# Altium footprint library micro-siemens.PCBLIB: 57 footprints (part 1 of 5)
Each footprint in its own frame and in the unit in brackets; x right, y up, seen from the top. Pads: shape width x height; smd on the part's side, far side on the other; paste and mask are expansions set on the pad; w line width, h text height; cw(c..) or ccw(c..) is an arc to the next point about the centre after c.
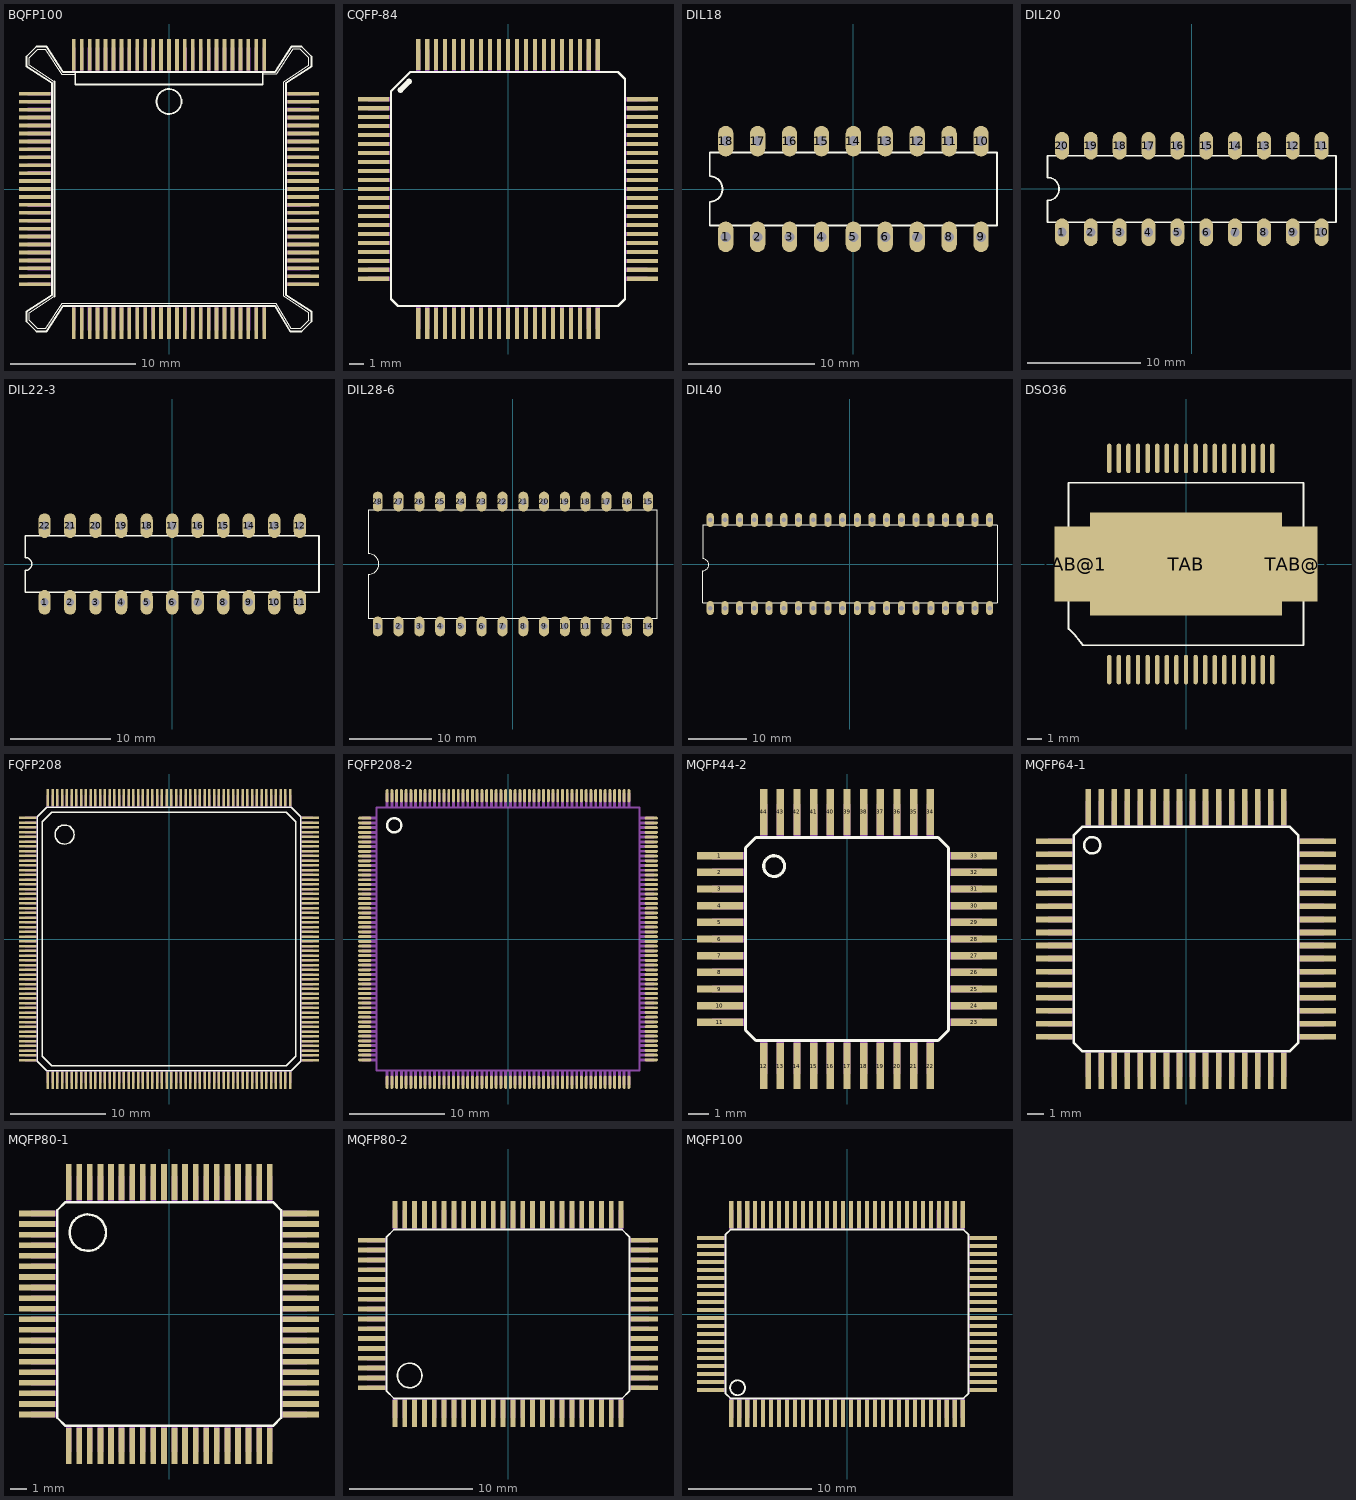
[diagram p0: the footprints below, top view; thin cyan lines are the x and y axes]

## BQFP100 [mm]
pads (100):
  rect 0.3x2.5 smd: 1(0,10.75) 2(-0.635,10.75) 3(-1.27,10.75) 4(-1.905,10.75) 5(-2.54,10.75) 6(-3.175,10.75) 7(-3.81,10.75) 8(-4.445,10.75) 9(-5.08,10.75) 10(-5.715,10.75) 11(-6.35,10.75) 12(-6.985,10.75) 13(-7.62,10.75) 39(-7.62,-10.75) 40(-6.985,-10.75) 41(-6.35,-10.75) 42(-5.715,-10.75) 43(-5.08,-10.75) 44(-4.445,-10.75) 45(-3.81,-10.75) 46(-3.175,-10.75) 47(-2.54,-10.75) 48(-1.905,-10.75) 49(-1.27,-10.75) 50(-0.635,-10.75) 51(0,-10.75) 52(0.635,-10.75) 53(1.27,-10.75) 54(1.905,-10.75) 55(2.54,-10.75) 56(3.175,-10.75) 57(3.81,-10.75) 58(4.445,-10.75) 59(5.08,-10.75) 60(5.715,-10.75) 61(6.35,-10.75) 62(6.985,-10.75) 63(7.62,-10.75) 89(7.62,10.75) 90(6.985,10.75) 91(6.35,10.75) 92(5.715,10.75) 93(5.08,10.75) 94(4.445,10.75) 95(3.81,10.75) 96(3.175,10.75) 97(2.54,10.75) 98(1.905,10.75) 99(1.27,10.75) 100(0.635,10.75)
  rect 2.5x0.3 smd: 14(-10.75,7.62) 15(-10.75,6.985) 16(-10.75,6.35) 17(-10.75,5.715) 18(-10.75,5.08) 19(-10.75,4.445) 20(-10.75,3.81) 21(-10.75,3.175) 22(-10.75,2.54) 23(-10.75,1.905) 24(-10.75,1.27) 25(-10.75,0.635) 26(-10.75,0) 27(-10.75,-0.635) 28(-10.75,-1.27) 29(-10.75,-1.905) 30(-10.75,-2.54) 31(-10.75,-3.175) 32(-10.75,-3.81) 33(-10.75,-4.445) 34(-10.75,-5.08) 35(-10.75,-5.715) 36(-10.75,-6.35) 37(-10.75,-6.985) 38(-10.75,-7.62) 64(10.75,-7.62) 65(10.75,-6.985) 66(10.75,-6.35) 67(10.75,-5.715) 68(10.75,-5.08) 69(10.75,-4.445) 70(10.75,-3.81) 71(10.75,-3.175) 72(10.75,-2.54) 73(10.75,-1.905) 74(10.75,-1.27) 75(10.75,-0.635) 76(10.75,0) 77(10.75,0.635) 78(10.75,1.27) 79(10.75,1.905) 80(10.75,2.54) 81(10.75,3.175) 82(10.75,3.81) 83(10.75,4.445) 84(10.75,5.08) 85(10.75,5.715) 86(10.75,6.35) 87(10.75,6.985) 88(10.75,7.62)
Top Overlay:
  circle w0.152: c0,7 r1
  lines w0.051: -9.173,-8.6 -11.2,-9.9 -11.2,-10.5 -10.5,-11.2 -9.9,-11.2 -8.6,-9.173 8.6,-9.173 9.8,-11.2 10.5,-11.2 11.2,-10.5 11.2,-9.9 9.173,-8.6 9.173,8.6 11.2,9.9 11.2,10.5 10.5,11.2 9.9,11.2 8.6,9.173 7.5,9.173 ; -9.173,8.6 -11.2,9.9 -11.2,10.5 -10.5,11.2 -9.9,11.2 -8.6,9.173 -7.5,9.173
  lines w0.152: -9.173,-8.6 -9.173,8.6 ; -7.5,9.373 -8.5,9.373 -9.8,11.4 -10.6,11.4 -11.4,10.6 -11.4,9.8 -9.373,8.5 -9.373,-8.5 -11.4,-9.8 -11.4,-10.6 -10.6,-11.4 -9.8,-11.4 -8.5,-9.373 8.5,-9.373 9.7,-11.4 10.6,-11.4 11.4,-10.6 11.4,-9.8 9.373,-8.5 9.373,8.5 11.4,9.8 11.4,10.6 10.6,11.4 9.8,11.4 8.5,9.373 7.5,9.373 ; -7.5,9.373 7.5,9.373 ; -7.5,9.373 -7.5,9.173 -7.5,8.373 7.5,8.373 7.5,9.173 7.5,9.373
Mechanical 16:
  rectangle: 7.47,9.373 7.77,11.303
  rectangle: 6.835,9.373 7.135,11.303
  rectangle: 6.2,9.373 6.5,11.303
  rectangle: 5.565,9.373 5.865,11.303
  rectangle: 4.93,9.373 5.23,11.303
  rectangle: 4.295,9.373 4.595,11.303
  rectangle: 3.66,9.373 3.96,11.303
  rectangle: 3.025,9.373 3.325,11.303
  rectangle: 2.39,9.373 2.69,11.303
  rectangle: 1.755,9.373 2.055,11.303
  rectangle: 1.12,9.373 1.42,11.303
  rectangle: 0.485,9.373 0.785,11.303
  rectangle: -0.15,9.373 0.15,11.303
  rectangle: -0.785,9.373 -0.485,11.303
  rectangle: -1.42,9.373 -1.12,11.303
  rectangle: -2.055,9.373 -1.755,11.303
  rectangle: -2.69,9.373 -2.39,11.303
  rectangle: -3.325,9.373 -3.025,11.303
  rectangle: -3.96,9.373 -3.66,11.303
  rectangle: -4.595,9.373 -4.295,11.303
  rectangle: -5.23,9.373 -4.93,11.303
  rectangle: -5.865,9.373 -5.565,11.303
  rectangle: -6.5,9.373 -6.2,11.303
  rectangle: -7.135,9.373 -6.835,11.303
  rectangle: -7.77,9.373 -7.47,11.303
  rectangle: -11.303,7.47 -9.373,7.77
  rectangle: -11.303,6.835 -9.373,7.135
  rectangle: -11.303,6.2 -9.373,6.5
  rectangle: -11.303,5.565 -9.373,5.865
  rectangle: -11.303,4.93 -9.373,5.23
  rectangle: -11.303,4.295 -9.373,4.595
  rectangle: -11.303,3.66 -9.373,3.96
  rectangle: -11.303,3.025 -9.373,3.325
  rectangle: -11.303,2.39 -9.373,2.69
  rectangle: -11.303,1.755 -9.373,2.055
  rectangle: -11.303,1.12 -9.373,1.42
  rectangle: -11.303,0.485 -9.373,0.785
  rectangle: -11.303,-0.15 -9.373,0.15
  rectangle: -11.303,-0.785 -9.373,-0.485
  rectangle: -11.303,-1.42 -9.373,-1.12
  rectangle: -11.303,-2.055 -9.373,-1.755
  rectangle: -11.303,-2.69 -9.373,-2.39
  rectangle: -11.303,-3.325 -9.373,-3.025
  rectangle: -11.303,-3.96 -9.373,-3.66
  rectangle: -11.303,-4.595 -9.373,-4.295
  rectangle: -11.303,-5.23 -9.373,-4.93
  rectangle: -11.303,-5.865 -9.373,-5.565
  rectangle: -11.303,-6.5 -9.373,-6.2
  rectangle: -11.303,-7.135 -9.373,-6.835
  rectangle: -11.303,-7.77 -9.373,-7.47
  rectangle: -7.77,-11.303 -7.47,-9.373
  rectangle: -7.135,-11.303 -6.835,-9.373
  rectangle: -6.5,-11.303 -6.2,-9.373
  rectangle: -5.865,-11.303 -5.565,-9.373
  rectangle: -5.23,-11.303 -4.93,-9.373
  rectangle: -4.595,-11.303 -4.295,-9.373
  rectangle: -3.96,-11.303 -3.66,-9.373
  rectangle: -3.325,-11.303 -3.025,-9.373
  rectangle: -2.69,-11.303 -2.39,-9.373
  rectangle: -2.055,-11.303 -1.755,-9.373
  rectangle: -1.42,-11.303 -1.12,-9.373
  rectangle: -0.785,-11.303 -0.485,-9.373
  rectangle: -0.15,-11.303 0.15,-9.373
  rectangle: 0.485,-11.303 0.785,-9.373
  rectangle: 1.12,-11.303 1.42,-9.373
  rectangle: 1.755,-11.303 2.055,-9.373
  rectangle: 2.39,-11.303 2.69,-9.373
  rectangle: 3.025,-11.303 3.325,-9.373
  rectangle: 3.66,-11.303 3.96,-9.373
  rectangle: 4.295,-11.303 4.595,-9.373
  rectangle: 4.93,-11.303 5.23,-9.373
  rectangle: 5.565,-11.303 5.865,-9.373
  rectangle: 6.2,-11.303 6.5,-9.373
  rectangle: 6.835,-11.303 7.135,-9.373
  rectangle: 7.47,-11.303 7.77,-9.373
  rectangle: 9.373,-7.77 11.303,-7.47
  rectangle: 9.373,-7.135 11.303,-6.835
  rectangle: 9.373,-6.5 11.303,-6.2
  rectangle: 9.373,-5.865 11.303,-5.565
  rectangle: 9.373,-5.23 11.303,-4.93
  rectangle: 9.373,-4.595 11.303,-4.295
  rectangle: 9.373,-3.96 11.303,-3.66
  rectangle: 9.373,-3.325 11.303,-3.025
  rectangle: 9.373,-2.69 11.303,-2.39
  rectangle: 9.373,-2.055 11.303,-1.755
  rectangle: 9.373,-1.42 11.303,-1.12
  rectangle: 9.373,-0.785 11.303,-0.485
  rectangle: 9.373,-0.15 11.303,0.15
  rectangle: 9.373,0.485 11.303,0.785
  rectangle: 9.373,1.12 11.303,1.42
  rectangle: 9.373,1.755 11.303,2.055
  rectangle: 9.373,2.39 11.303,2.69
  rectangle: 9.373,3.025 11.303,3.325
  rectangle: 9.373,3.66 11.303,3.96
  rectangle: 9.373,4.295 11.303,4.595
  rectangle: 9.373,4.93 11.303,5.23
  rectangle: 9.373,5.565 11.303,5.865
  rectangle: 9.373,6.2 11.303,6.5
  rectangle: 9.373,6.835 11.303,7.135
  rectangle: 9.373,7.47 11.303,7.77

## CQFP-84 [mm]
pads (84):
  rect 2.2x0.3 smd: 1(-9.5,6.35) 2(-9.5,5.715) 3(-9.5,5.08) 4(-9.5,4.445) 5(-9.5,3.81) 6(-9.5,3.175) 7(-9.5,2.54) 8(-9.5,1.905) 9(-9.5,1.27) 10(-9.5,0.635) 11(-9.5,0) 12(-9.5,-0.635) 13(-9.5,-1.27) 14(-9.5,-1.905) 15(-9.5,-2.54) 16(-9.5,-3.175) 17(-9.5,-3.81) 18(-9.5,-4.445) 19(-9.5,-5.08) 20(-9.5,-5.715) 21(-9.5,-6.35) 43(9.5,-6.35) 44(9.5,-5.715) 45(9.5,-5.08) 46(9.5,-4.445) 47(9.5,-3.81) 48(9.5,-3.175) 49(9.5,-2.54) 50(9.5,-1.905) 51(9.5,-1.27) 52(9.5,-0.635) 53(9.5,0) 54(9.5,0.635) 55(9.5,1.27) 56(9.5,1.905) 57(9.5,2.54) 58(9.5,3.175) 59(9.5,3.81) 60(9.5,4.445) 61(9.5,5.08) 62(9.5,5.715) 63(9.5,6.35)
  rect 0.3x2.2 smd: 22(-6.35,-9.5) 23(-5.715,-9.5) 24(-5.08,-9.5) 25(-4.445,-9.5) 26(-3.81,-9.5) 27(-3.175,-9.5) 28(-2.54,-9.5) 29(-1.905,-9.5) 30(-1.27,-9.5) 31(-0.635,-9.5) 32(0,-9.5) 33(0.635,-9.5) 34(1.27,-9.5) 35(1.905,-9.5) 36(2.54,-9.5) 37(3.175,-9.5) 38(3.81,-9.5) 39(4.445,-9.5) 40(5.08,-9.5) 41(5.715,-9.5) 42(6.35,-9.5) 64(6.35,9.5) 65(5.715,9.5) 66(5.08,9.5) 67(4.445,9.5) 68(3.81,9.5) 69(3.175,9.5) 70(2.54,9.5) 71(1.905,9.5) 72(1.27,9.5) 73(0.635,9.5) 74(0,9.5) 75(-0.635,9.5) 76(-1.27,9.5) 77(-1.905,9.5) 78(-2.54,9.5) 79(-3.175,9.5) 80(-3.81,9.5) 81(-4.445,9.5) 82(-5.08,9.5) 83(-5.715,9.5) 84(-6.35,9.5)
Top Overlay:
  lines w0.152: -8.273,-7.773 -7.773,-8.273 7.773,-8.273 8.273,-7.773 8.273,7.773 7.773,8.273 -6.9,8.273 -8.273,6.9 -8.273,-7.773
  lines w0.406: -7.6,7 -7,7.6
Mechanical 16:
  rectangle: 8.273,6.2 9.873,6.5
  rectangle: 8.273,5.565 9.873,5.865
  rectangle: 8.273,4.93 9.873,5.23
  rectangle: 8.273,4.295 9.873,4.595
  rectangle: 8.273,3.66 9.873,3.96
  rectangle: 8.273,3.025 9.873,3.325
  rectangle: 8.273,2.39 9.873,2.69
  rectangle: 8.273,1.755 9.873,2.055
  rectangle: 8.273,1.12 9.873,1.42
  rectangle: 8.273,0.485 9.873,0.785
  rectangle: 8.273,-0.15 9.873,0.15
  rectangle: 8.273,-0.785 9.873,-0.485
  rectangle: 8.273,-1.42 9.873,-1.12
  rectangle: 8.273,-2.055 9.873,-1.755
  rectangle: 8.273,-2.69 9.873,-2.39
  rectangle: 8.273,-3.325 9.873,-3.025
  rectangle: 8.273,-3.96 9.873,-3.66
  rectangle: 8.273,-4.595 9.873,-4.295
  rectangle: 8.273,-5.23 9.873,-4.93
  rectangle: 8.273,-5.865 9.873,-5.565
  rectangle: 8.273,-6.5 9.873,-6.2
  rectangle: -6.5,8.273 -6.2,9.873
  rectangle: -5.865,8.273 -5.565,9.873
  rectangle: -5.23,8.273 -4.93,9.873
  rectangle: -4.595,8.273 -4.295,9.873
  rectangle: -3.96,8.273 -3.66,9.873
  rectangle: -3.325,8.273 -3.025,9.873
  rectangle: -2.69,8.273 -2.39,9.873
  rectangle: -2.055,8.273 -1.755,9.873
  rectangle: -1.42,8.273 -1.12,9.873
  rectangle: -0.785,8.273 -0.485,9.873
  rectangle: -0.15,8.273 0.15,9.873
  rectangle: 0.485,8.273 0.785,9.873
  rectangle: 1.12,8.273 1.42,9.873
  rectangle: 1.755,8.273 2.055,9.873
  rectangle: 2.39,8.273 2.69,9.873
  rectangle: 3.025,8.273 3.325,9.873
  rectangle: 3.66,8.273 3.96,9.873
  rectangle: 4.295,8.273 4.595,9.873
  rectangle: 4.93,8.273 5.23,9.873
  rectangle: 5.565,8.273 5.865,9.873
  rectangle: 6.2,8.273 6.5,9.873
  rectangle: -9.888,6.2 -8.288,6.5
  rectangle: -9.888,5.565 -8.288,5.865
  rectangle: -9.888,4.93 -8.288,5.23
  rectangle: -9.888,4.295 -8.288,4.595
  rectangle: -9.888,3.66 -8.288,3.96
  rectangle: -9.888,3.025 -8.288,3.325
  rectangle: -9.888,2.39 -8.288,2.69
  rectangle: -9.888,1.755 -8.288,2.055
  rectangle: -9.888,1.12 -8.288,1.42
  rectangle: -9.888,0.485 -8.288,0.785
  rectangle: -9.888,-0.15 -8.288,0.15
  rectangle: -9.888,-0.785 -8.288,-0.485
  rectangle: -9.888,-1.42 -8.288,-1.12
  rectangle: -9.888,-2.055 -8.288,-1.755
  rectangle: -9.888,-2.69 -8.288,-2.39
  rectangle: -9.888,-3.325 -8.288,-3.025
  rectangle: -9.888,-3.96 -8.288,-3.66
  rectangle: -9.888,-4.595 -8.288,-4.295
  rectangle: -9.888,-5.23 -8.288,-4.93
  rectangle: -9.888,-5.865 -8.288,-5.565
  rectangle: -9.888,-6.5 -8.288,-6.2
  rectangle: -6.5,-9.888 -6.2,-8.288
  rectangle: -5.865,-9.888 -5.565,-8.288
  rectangle: -5.23,-9.888 -4.93,-8.288
  rectangle: -4.595,-9.888 -4.295,-8.288
  rectangle: -3.96,-9.888 -3.66,-8.288
  rectangle: -3.325,-9.888 -3.025,-8.288
  rectangle: -2.69,-9.888 -2.39,-8.288
  rectangle: -2.055,-9.888 -1.755,-8.288
  rectangle: -1.42,-9.888 -1.12,-8.288
  rectangle: -0.785,-9.888 -0.485,-8.288
  rectangle: -0.15,-9.888 0.15,-8.288
  rectangle: 0.485,-9.888 0.785,-8.288
  rectangle: 1.12,-9.888 1.42,-8.288
  rectangle: 1.755,-9.888 2.055,-8.288
  rectangle: 2.39,-9.888 2.69,-8.288
  rectangle: 3.025,-9.888 3.325,-8.288
  rectangle: 3.66,-9.888 3.96,-8.288
  rectangle: 4.295,-9.888 4.595,-8.288
  rectangle: 4.93,-9.888 5.23,-8.288
  rectangle: 5.565,-9.888 5.865,-8.288
  rectangle: 6.2,-9.888 6.5,-8.288

## DIL18 [mil]
pads (18):
  oval 48x96 hole 32: 1(-400,-150) 2(-300,-150) 3(-200,-150) 4(-100,-150) 5(0,-150) 6(100,-150) 7(200,-150) 8(300,-150) 9(400,-150) 10(400,150) 11(300,150) 12(200,150) 13(100,150) 14(0,150) 15(-100,150) 16(-200,150) 17(-300,150) 18(-400,150)
Top Overlay:
  lines w6: -450,-115 450,-115 450,115 -450,115 -450,40 cw(c-450,0) -450,-40 -450,-115

## DIL20 [mil]
pads (20):
  oval 48x96 hole 32: 1(-450,-150) 2(-350,-150) 3(-250,-150) 4(-150,-150) 5(-50,-150) 6(50,-150) 7(150,-150) 8(250,-150) 9(350,-150) 10(450,-150) 11(450,150) 12(350,150) 13(250,150) 14(150,150) 15(50,150) 16(-50,150) 17(-150,150) 18(-250,150) 19(-350,150) 20(-450,150)
Top Overlay:
  lines w6: -500,-115 500,-115 500,115 -500,115 -500,40 cw(c-500,0) -500,-40 -500,-115

## DIL22-3 [mil]
pads (22):
  oval 48x96 hole 32: 1(-500,-150) 2(-400,-150) 3(-300,-150) 4(-200,-150) 5(-100,-150) 6(0,-150) 7(100,-150) 8(200,-150) 9(300,-150) 10(400,-150) 11(500,-150) 12(500,150) 13(400,150) 14(300,150) 15(200,150) 16(100,150) 17(0,150) 18(-100,150) 19(-200,150) 20(-300,150) 21(-400,150) 22(-500,150)
Top Overlay:
  lines w6: -575,-110 -575,-25 ccw(c-575,0) -575,25 -575,110 575,110 575,-110 -575,-110

## DIL28-6 [mil]
pads (28):
  oval 48x96 hole 32: 1(-650,-300) 2(-550,-300) 3(-450,-300) 4(-350,-300) 5(-250,-300) 6(-150,-300) 7(-50,-300) 8(50,-300) 9(150,-300) 10(250,-300) 11(350,-300) 12(450,-300) 13(550,-300) 14(650,-300) 15(650,300) 16(550,300) 17(450,300) 18(350,300) 19(250,300) 20(150,300) 21(50,300) 22(-50,300) 23(-150,300) 24(-250,300) 25(-350,300) 26(-450,300) 27(-550,300) 28(-650,300)
Top Overlay:
  lines w6: -695,-260 -695,-50 ccw(c-695,0) -695,50 -695,260 695,260 695,-260 -695,-260

## DIL40 [mil]
pads (40):
  oval 48x96 hole 32: 1(-950,-300) 2(-850,-300) 3(-750,-300) 4(-650,-300) 5(-550,-300) 6(-450,-300) 7(-350,-300) 8(-250,-300) 9(-150,-300) 10(-50,-300) 11(50,-300) 12(150,-300) 13(250,-300) 14(350,-300) 15(450,-300) 16(550,-300) 17(650,-300) 18(750,-300) 19(850,-300) 20(950,-300) 21(950,300) 22(850,300) 23(750,300) 24(650,300) 25(550,300) 26(450,300) 27(350,300) 28(250,300) 29(150,300) 30(50,300) 31(-50,300) 32(-150,300) 33(-250,300) 34(-350,300) 35(-450,300) 36(-550,300) 37(-650,300) 38(-750,300) 39(-850,300) 40(-950,300)
Top Overlay:
  lines w6: -1000,-265 1000,-265 1000,265 -1000,265 -1000,35 cw(c-1000,-5) -1000,-45 -1000,-265

## DSO36 [mm]
pads (39):
  rrect100% 0.3x2 smd: 1(-5.2,-7.15) 2(-4.55,-7.15) 3(-3.9,-7.15) 4(-3.25,-7.15) 5(-2.6,-7.15) 6(-1.95,-7.15) 7(-1.3,-7.15) 8(-0.65,-7.15) 9(0,-7.15) 10(0.65,-7.15) 11(1.3,-7.15) 12(1.95,-7.15) 13(2.6,-7.15) 14(3.25,-7.15) 15(3.9,-7.15) 16(4.55,-7.15) 17(5.2,-7.15) 18(5.85,-7.15) 19(5.85,7.15) 20(5.2,7.15) 21(4.55,7.15) 22(3.9,7.15) 23(3.25,7.15) 24(2.6,7.15) 25(1.95,7.15) 26(1.3,7.15) 27(0.65,7.15) 28(0,7.15) 29(-0.65,7.15) 30(-1.3,7.15) 31(-1.95,7.15) 32(-2.6,7.15) 33(-3.25,7.15) 34(-3.9,7.15) 35(-4.55,7.15) 36(-5.2,7.15)
  rect 13x7 smd: TAB(0,0)
  rect 2.543x5.08 smd: TAB@1(-7.62,0) TAB@2(7.62,0)
Top Overlay:
  lines w0.127: -7.95,-4.4 -7.95,-1.15 -6.475,-1.15 -6.475,1.475 -7.95,1.475 -7.95,5.5 7.95,5.5 7.95,1.475 6.475,1.475 6.475,-1.15 7.95,-1.15 7.95,-5.5 -6.975,-5.5 -7.475,-4.875 -7.95,-4.4

## FQFP208 [mm]
pads (208):
  rect 1.8x0.27 smd: 1(-14.9,12.75) 2(-14.9,12.25) 3(-14.9,11.75) 4(-14.9,11.25) 5(-14.9,10.75) 6(-14.9,10.25) 7(-14.9,9.75) 8(-14.9,9.25) 9(-14.9,8.75) 10(-14.9,8.25) 11(-14.9,7.75) 12(-14.9,7.25) 13(-14.9,6.75) 14(-14.9,6.25) 15(-14.9,5.75) 16(-14.9,5.25) 17(-14.9,4.75) 18(-14.9,4.25) 19(-14.9,3.75) 20(-14.9,3.25) 21(-14.9,2.75) 22(-14.9,2.25) 23(-14.9,1.75) 24(-14.9,1.25) 25(-14.9,0.75) 26(-14.9,0.25) 27(-14.9,-0.25) 28(-14.9,-0.75) 29(-14.9,-1.25) 30(-14.9,-1.75) 31(-14.9,-2.25) 32(-14.9,-2.75) 33(-14.9,-3.25) 34(-14.9,-3.75) 35(-14.9,-4.25) 36(-14.9,-4.75) 37(-14.9,-5.25) 38(-14.9,-5.75) 39(-14.9,-6.25) 40(-14.9,-6.75) 41(-14.9,-7.25) 42(-14.9,-7.75) 43(-14.9,-8.25) 44(-14.9,-8.75) 45(-14.9,-9.25) 46(-14.9,-9.75) 47(-14.9,-10.25) 48(-14.9,-10.75) 49(-14.9,-11.25) 50(-14.9,-11.75) 51(-14.9,-12.25) 52(-14.9,-12.75) 105(14.9,-12.75) 106(14.9,-12.25) 107(14.9,-11.75) 108(14.9,-11.25) 109(14.9,-10.75) 110(14.9,-10.25) 111(14.9,-9.75) 112(14.9,-9.25) 113(14.9,-8.75) 114(14.9,-8.25) 115(14.9,-7.75) 116(14.9,-7.25) 117(14.9,-6.75) 118(14.9,-6.25) 119(14.9,-5.75) 120(14.9,-5.25) 121(14.9,-4.75) 122(14.9,-4.25) 123(14.9,-3.75) 124(14.9,-3.25) 125(14.9,-2.75) 126(14.9,-2.25) 127(14.9,-1.75) 128(14.9,-1.25) 129(14.9,-0.75) 130(14.9,-0.25) 131(14.9,0.25) 132(14.9,0.75) 133(14.9,1.25) 134(14.9,1.75) 135(14.9,2.25) 136(14.9,2.75) 137(14.9,3.25) 138(14.9,3.75) 139(14.9,4.25) 140(14.9,4.75) 141(14.9,5.25) 142(14.9,5.75) 143(14.9,6.25) 144(14.9,6.75) 145(14.9,7.25) 146(14.9,7.75) 147(14.9,8.25) 148(14.9,8.75) 149(14.9,9.25) 150(14.9,9.75) 151(14.9,10.25) 152(14.9,10.75) 153(14.9,11.25) 154(14.9,11.75) 155(14.9,12.25) 156(14.9,12.75)
  rect 0.27x1.8 smd: 53(-12.75,-14.9) 54(-12.25,-14.9) 55(-11.75,-14.9) 56(-11.25,-14.9) 57(-10.75,-14.9) 58(-10.25,-14.9) 59(-9.75,-14.9) 60(-9.25,-14.9) 61(-8.75,-14.9) 62(-8.25,-14.9) 63(-7.75,-14.9) 64(-7.25,-14.9) 65(-6.75,-14.9) 66(-6.25,-14.9) 67(-5.75,-14.9) 68(-5.25,-14.9) 69(-4.75,-14.9) 70(-4.25,-14.9) 71(-3.75,-14.9) 72(-3.25,-14.9) 73(-2.75,-14.9) 74(-2.25,-14.9) 75(-1.75,-14.9) 76(-1.25,-14.9) 77(-0.75,-14.9) 78(-0.25,-14.9) 79(0.25,-14.9) 80(0.75,-14.9) 81(1.25,-14.9) 82(1.75,-14.9) 83(2.25,-14.9) 84(2.75,-14.9) 85(3.25,-14.9) 86(3.75,-14.9) 87(4.25,-14.9) 88(4.75,-14.9) 89(5.25,-14.9) 90(5.75,-14.9) 91(6.25,-14.9) 92(6.75,-14.9) 93(7.25,-14.9) 94(7.75,-14.9) 95(8.25,-14.9) 96(8.75,-14.9) 97(9.25,-14.9) 98(9.75,-14.9) 99(10.25,-14.9) 100(10.75,-14.9) 101(11.25,-14.9) 102(11.75,-14.9) 103(12.25,-14.9) 104(12.75,-14.9) 157(12.75,14.9) 158(12.25,14.9) 159(11.75,14.9) 160(11.25,14.9) 161(10.75,14.9) 162(10.25,14.9) 163(9.75,14.9) 164(9.25,14.9) 165(8.75,14.9) 166(8.25,14.9) 167(7.75,14.9) 168(7.25,14.9) 169(6.75,14.9) 170(6.25,14.9) 171(5.75,14.9) 172(5.25,14.9) 173(4.75,14.9) 174(4.25,14.9) 175(3.75,14.9) 176(3.25,14.9) 177(2.75,14.9) 178(2.25,14.9) 179(1.75,14.9) 180(1.25,14.9) 181(0.75,14.9) 182(0.25,14.9) 183(-0.25,14.9) 184(-0.75,14.9) 185(-1.25,14.9) 186(-1.75,14.9) 187(-2.25,14.9) 188(-2.75,14.9) 189(-3.25,14.9) 190(-3.75,14.9) 191(-4.25,14.9) 192(-4.75,14.9) 193(-5.25,14.9) 194(-5.75,14.9) 195(-6.25,14.9) 196(-6.75,14.9) 197(-7.25,14.9) 198(-7.75,14.9) 199(-8.25,14.9) 200(-8.75,14.9) 201(-9.25,14.9) 202(-9.75,14.9) 203(-10.25,14.9) 204(-10.75,14.9) 205(-11.25,14.9) 206(-11.75,14.9) 207(-12.25,14.9) 208(-12.75,14.9)
Top Overlay:
  circle w0.152: c-11,11 r1
  lines w0.152: -13.873,-12.873 -12.873,-13.873 12.873,-13.873 13.873,-12.873 13.873,12.873 12.873,13.873 -12.873,13.873 -13.873,12.873 -13.873,-12.873 ; -13.373,-12.373 -12.373,-13.373 12.373,-13.373 13.373,-12.373 13.373,12.373 12.373,13.373 -12.373,13.373 -13.373,12.373 -13.373,-12.373
Mechanical 16:
  drawing of 208 lines, arcs and shapes, not listed

## FQFP208-2 [mm]
pads (208):
  rrect100% 1.4x0.31 smd: 1(-15.125,12.75) 2(-15.125,12.25) 3(-15.125,11.75) 4(-15.125,11.25) 5(-15.125,10.75) 6(-15.125,10.25) 7(-15.125,9.75) 8(-15.125,9.25) 9(-15.125,8.75) 10(-15.125,8.25) 11(-15.125,7.75) 12(-15.125,7.25) 13(-15.125,6.75) 14(-15.125,6.25) 15(-15.125,5.75) 16(-15.125,5.25) 17(-15.125,4.75) 18(-15.125,4.25) 19(-15.125,3.75) 20(-15.125,3.25) 21(-15.125,2.75) 22(-15.125,2.25) 23(-15.125,1.75) 24(-15.125,1.25) 25(-15.125,0.75) 26(-15.125,0.25) 27(-15.125,-0.25) 28(-15.125,-0.75) 29(-15.125,-1.25) 30(-15.125,-1.75) 31(-15.125,-2.25) 32(-15.125,-2.75) 33(-15.125,-3.25) 34(-15.125,-3.75) 35(-15.125,-4.25) 36(-15.125,-4.75) 37(-15.125,-5.25) 38(-15.125,-5.75) 39(-15.125,-6.25) 40(-15.125,-6.75) 41(-15.125,-7.25) 42(-15.125,-7.75) 43(-15.125,-8.25) 44(-15.125,-8.75) 45(-15.125,-9.25) 46(-15.125,-9.75) 47(-15.125,-10.25) 48(-15.125,-10.75) 49(-15.125,-11.25) 50(-15.125,-11.75) 51(-15.125,-12.25) 52(-15.125,-12.75) 105(15.125,-12.75) 106(15.125,-12.25) 107(15.125,-11.75) 108(15.125,-11.25) 109(15.125,-10.75) 110(15.125,-10.25) 111(15.125,-9.75) 112(15.125,-9.25) 113(15.125,-8.75) 114(15.125,-8.25) 115(15.125,-7.75) 116(15.125,-7.25) 117(15.125,-6.75) 118(15.125,-6.25) 119(15.125,-5.75) 120(15.125,-5.25) 121(15.125,-4.75) 122(15.125,-4.25) 123(15.125,-3.75) 124(15.125,-3.25) 125(15.125,-2.75) 126(15.125,-2.25) 127(15.125,-1.75) 128(15.125,-1.25) 129(15.125,-0.75) 130(15.125,-0.25) 131(15.125,0.25) 132(15.125,0.75) 133(15.125,1.25) 134(15.125,1.75) 135(15.125,2.25) 136(15.125,2.75) 137(15.125,3.25) 138(15.125,3.75) 139(15.125,4.25) 140(15.125,4.75) 141(15.125,5.25) 142(15.125,5.75) 143(15.125,6.25) 144(15.125,6.75) 145(15.125,7.25) 146(15.125,7.75) 147(15.125,8.25) 148(15.125,8.75) 149(15.125,9.25) 150(15.125,9.75) 151(15.125,10.25) 152(15.125,10.75) 153(15.125,11.25) 154(15.125,11.75) 155(15.125,12.25) 156(15.125,12.75)
  rrect100% 0.31x1.4 smd: 53(-12.75,-15.125) 54(-12.25,-15.125) 55(-11.75,-15.125) 56(-11.25,-15.125) 57(-10.75,-15.125) 58(-10.25,-15.125) 59(-9.75,-15.125) 60(-9.25,-15.125) 61(-8.75,-15.125) 62(-8.25,-15.125) 63(-7.75,-15.125) 64(-7.25,-15.125) 65(-6.75,-15.125) 66(-6.25,-15.125) 67(-5.75,-15.125) 68(-5.25,-15.125) 69(-4.75,-15.125) 70(-4.25,-15.125) 71(-3.75,-15.125) 72(-3.25,-15.125) 73(-2.75,-15.125) 74(-2.25,-15.125) 75(-1.75,-15.125) 76(-1.25,-15.125) 77(-0.75,-15.125) 78(-0.25,-15.125) 79(0.25,-15.125) 80(0.75,-15.125) 81(1.25,-15.125) 82(1.75,-15.125) 83(2.25,-15.125) 84(2.75,-15.125) 85(3.25,-15.125) 86(3.75,-15.125) 87(4.25,-15.125) 88(4.75,-15.125) 89(5.25,-15.125) 90(5.75,-15.125) 91(6.25,-15.125) 92(6.75,-15.125) 93(7.25,-15.125) 94(7.75,-15.125) 95(8.25,-15.125) 96(8.75,-15.125) 97(9.25,-15.125) 98(9.75,-15.125) 99(10.25,-15.125) 100(10.75,-15.125) 101(11.25,-15.125) 102(11.75,-15.125) 103(12.25,-15.125) 104(12.75,-15.125) 157(12.75,15.125) 158(12.25,15.125) 159(11.75,15.125) 160(11.25,15.125) 161(10.75,15.125) 162(10.25,15.125) 163(9.75,15.125) 164(9.25,15.125) 165(8.75,15.125) 166(8.25,15.125) 167(7.75,15.125) 168(7.25,15.125) 169(6.75,15.125) 170(6.25,15.125) 171(5.75,15.125) 172(5.25,15.125) 173(4.75,15.125) 174(4.25,15.125) 175(3.75,15.125) 176(3.25,15.125) 177(2.75,15.125) 178(2.25,15.125) 179(1.75,15.125) 180(1.25,15.125) 181(0.75,15.125) 182(0.25,15.125) 183(-0.25,15.125) 184(-0.75,15.125) 185(-1.25,15.125) 186(-1.75,15.125) 187(-2.25,15.125) 188(-2.75,15.125) 189(-3.25,15.125) 190(-3.75,15.125) 191(-4.25,15.125) 192(-4.75,15.125) 193(-5.25,15.125) 194(-5.75,15.125) 195(-6.25,15.125) 196(-6.75,15.125) 197(-7.25,15.125) 198(-7.75,15.125) 199(-8.25,15.125) 200(-8.75,15.125) 201(-9.25,15.125) 202(-9.75,15.125) 203(-10.25,15.125) 204(-10.75,15.125) 205(-11.25,15.125) 206(-11.75,15.125) 207(-12.25,15.125) 208(-12.75,15.125)
Top Overlay:
  circle w0.254: c-12,12 r0.75
Mechanical 16:
  drawing of 212 lines, arcs and shapes, not listed

## MQFP44-2 [mm]
pads (44):
  rect 2.2x0.35 smd: 1(-6.1,4) 2(-6.1,3.2) 3(-6.1,2.4) 4(-6.1,1.6) 5(-6.1,0.8) 6(-6.1,0) 7(-6.1,-0.8) 8(-6.1,-1.6) 9(-6.1,-2.4) 10(-6.1,-3.2) 11(-6.1,-4) 23(6.1,-4) 24(6.1,-3.2) 25(6.1,-2.4) 26(6.1,-1.6) 27(6.1,-0.8) 28(6.1,0) 29(6.1,0.8) 30(6.1,1.6) 31(6.1,2.4) 32(6.1,3.2) 33(6.1,4)
  rect 0.35x2.2 smd: 12(-4,-6.1) 13(-3.2,-6.1) 14(-2.4,-6.1) 15(-1.6,-6.1) 16(-0.8,-6.1) 17(0,-6.1) 18(0.8,-6.1) 19(1.6,-6.1) 20(2.4,-6.1) 21(3.2,-6.1) 22(4,-6.1) 34(4,6.1) 35(3.2,6.1) 36(2.4,6.1) 37(1.6,6.1) 38(0.8,6.1) 39(0,6.1) 40(-0.8,6.1) 41(-1.6,6.1) 42(-2.4,6.1) 43(-3.2,6.1) 44(-4,6.1)
Top Overlay:
  circle w0.152: c-3.5,3.5 r0.5
  lines w0.152: -4.873,-4.373 -4.873,4.373 -4.373,4.873 4.373,4.873 4.873,4.373 4.873,-4.373 4.373,-4.873 -4.373,-4.873 -4.873,-4.373
Mechanical 16:
  rectangle: 4.873,3.825 6.473,4.175
  rectangle: 4.873,3.025 6.473,3.375
  rectangle: 4.873,2.225 6.473,2.575
  rectangle: 4.873,1.425 6.473,1.775
  rectangle: 4.873,0.625 6.473,0.975
  rectangle: 4.873,-0.175 6.473,0.175
  rectangle: 4.873,-0.975 6.473,-0.625
  rectangle: 4.873,-1.775 6.473,-1.425
  rectangle: 4.873,-2.575 6.473,-2.225
  rectangle: 4.873,-3.375 6.473,-3.025
  rectangle: 4.873,-4.175 6.473,-3.825
  rectangle: 3.025,-6.473 3.375,-4.873
  rectangle: 3.825,-6.473 4.175,-4.873
  rectangle: 2.225,-6.473 2.575,-4.873
  rectangle: 1.425,-6.473 1.775,-4.873
  rectangle: 0.625,-6.473 0.975,-4.873
  rectangle: -0.175,-6.473 0.175,-4.873
  rectangle: -0.975,-6.473 -0.625,-4.873
  rectangle: -1.775,-6.473 -1.425,-4.873
  rectangle: -2.575,-6.473 -2.225,-4.873
  rectangle: -3.375,-6.473 -3.025,-4.873
  rectangle: -4.175,-6.473 -3.825,-4.873
  rectangle: -6.473,-4.175 -4.873,-3.825
  rectangle: -6.473,-3.375 -4.873,-3.025
  rectangle: -6.473,-2.575 -4.873,-2.225
  rectangle: -6.473,-1.775 -4.873,-1.425
  rectangle: -6.473,-0.975 -4.873,-0.625
  rectangle: -6.473,-0.175 -4.873,0.175
  rectangle: -6.473,0.625 -4.873,0.975
  rectangle: -6.473,1.425 -4.848,1.775
  rectangle: -6.473,2.225 -4.873,2.575
  rectangle: -6.473,3.025 -4.873,3.375
  rectangle: -6.473,3.825 -4.873,4.175
  rectangle: -4.175,4.873 -3.825,6.473
  rectangle: -3.375,4.873 -3.025,6.473
  rectangle: -2.575,4.873 -2.225,6.473
  rectangle: -0.975,4.873 -0.625,6.473
  rectangle: -1.775,4.873 -1.425,6.473
  rectangle: 0.625,4.873 0.975,6.473
  rectangle: -0.175,4.873 0.175,6.473
  rectangle: 2.225,4.873 2.575,6.473
  rectangle: 1.425,4.873 1.775,6.473
  rectangle: 3.825,4.873 4.175,6.473
  rectangle: 3.025,4.873 3.375,6.473

## MQFP64-1 [mm]
pads (64):
  rect 2.2x0.35 smd: 1(-8.1,6) 2(-8.1,5.2) 3(-8.1,4.4) 4(-8.1,3.6) 5(-8.1,2.8) 6(-8.1,2) 7(-8.1,1.2) 8(-8.1,0.4) 9(-8.1,-0.4) 10(-8.1,-1.2) 11(-8.1,-2) 12(-8.1,-2.8) 13(-8.1,-3.6) 14(-8.1,-4.4) 15(-8.1,-5.2) 16(-8.1,-6) 33(8.1,-6) 34(8.1,-5.2) 35(8.1,-4.4) 36(8.1,-3.6) 37(8.1,-2.8) 38(8.1,-2) 39(8.1,-1.2) 40(8.1,-0.4) 41(8.1,0.4) 42(8.1,1.2) 43(8.1,2) 44(8.1,2.8) 45(8.1,3.6) 46(8.1,4.4) 47(8.1,5.2) 48(8.1,6)
  rect 0.35x2.2 smd: 17(-6,-8.1) 18(-5.2,-8.1) 19(-4.4,-8.1) 20(-3.6,-8.1) 21(-2.8,-8.1) 22(-2,-8.1) 23(-1.2,-8.1) 24(-0.4,-8.1) 25(0.4,-8.1) 26(1.2,-8.1) 27(2,-8.1) 28(2.8,-8.1) 29(3.6,-8.1) 30(4.4,-8.1) 31(5.2,-8.1) 32(6,-8.1) 49(6,8.1) 50(5.2,8.1) 51(4.4,8.1) 52(3.6,8.1) 53(2.8,8.1) 54(2,8.1) 55(1.2,8.1) 56(0.4,8.1) 57(-0.4,8.1) 58(-1.2,8.1) 59(-2,8.1) 60(-2.8,8.1) 61(-3.6,8.1) 62(-4.4,8.1) 63(-5.2,8.1) 64(-6,8.1)
Top Overlay:
  circle w0.152: c-5.75,5.75 r0.5
  lines w0.152: -6.873,-6.373 -6.873,6.373 -6.373,6.873 6.373,6.873 6.873,6.373 6.873,-6.373 6.373,-6.873 -6.373,-6.873 -6.873,-6.373
Mechanical 16:
  rectangle: 6.873,5.825 8.473,6.175
  rectangle: 6.873,5.025 8.473,5.375
  rectangle: 6.873,4.225 8.473,4.575
  rectangle: 6.873,3.425 8.473,3.775
  rectangle: 6.873,2.625 8.473,2.975
  rectangle: 6.873,1.825 8.473,2.175
  rectangle: 6.873,1.025 8.473,1.375
  rectangle: 6.873,0.225 8.473,0.575
  rectangle: 6.873,-0.575 8.473,-0.225
  rectangle: 6.873,-1.375 8.473,-1.025
  rectangle: 6.873,-2.175 8.473,-1.825
  rectangle: 6.873,-2.975 8.473,-2.625
  rectangle: 6.873,-3.775 8.473,-3.425
  rectangle: 6.873,-4.575 8.473,-4.225
  rectangle: 6.873,-5.375 8.473,-5.025
  rectangle: 6.873,-6.175 8.473,-5.825
  rectangle: 5.825,-8.473 6.175,-6.873
  rectangle: 5.025,-8.473 5.375,-6.873
  rectangle: 4.225,-8.473 4.575,-6.873
  rectangle: 3.425,-8.473 3.775,-6.873
  rectangle: 2.625,-8.473 2.975,-6.873
  rectangle: 1.825,-8.473 2.175,-6.873
  rectangle: 1.025,-8.473 1.375,-6.873
  rectangle: 0.225,-8.473 0.575,-6.873
  rectangle: -0.575,-8.473 -0.225,-6.873
  rectangle: -1.375,-8.473 -1.025,-6.873
  rectangle: -2.175,-8.473 -1.825,-6.873
  rectangle: -2.975,-8.473 -2.625,-6.873
  rectangle: -3.775,-8.473 -3.425,-6.873
  rectangle: -4.575,-8.473 -4.225,-6.873
  rectangle: -5.375,-8.473 -5.025,-6.873
  rectangle: -6.175,-8.473 -5.825,-6.873
  rectangle: -8.473,-6.175 -6.873,-5.825
  rectangle: -8.473,-5.375 -6.873,-5.025
  rectangle: -8.473,-4.575 -6.873,-4.225
  rectangle: -8.473,-3.775 -6.873,-3.425
  rectangle: -8.473,-2.975 -6.873,-2.625
  rectangle: -8.473,-2.175 -6.873,-1.825
  rectangle: -8.473,-1.375 -6.873,-1.025
  rectangle: -8.473,-0.575 -6.873,-0.225
  rectangle: -8.473,0.225 -6.873,0.575
  rectangle: -8.473,1.025 -6.873,1.375
  rectangle: -8.473,1.825 -6.873,2.175
  rectangle: -8.473,2.625 -6.873,2.975
  rectangle: -8.473,3.425 -6.873,3.775
  rectangle: -8.473,4.225 -6.873,4.575
  rectangle: -8.473,5.025 -6.873,5.375
  rectangle: -8.473,5.825 -6.873,6.175
  rectangle: -5.375,6.873 -5.025,8.473
  rectangle: -6.175,6.873 -5.825,8.473
  rectangle: -3.775,6.873 -3.425,8.473
  rectangle: -4.575,6.873 -4.225,8.473
  rectangle: -2.975,6.873 -2.625,8.473
  rectangle: -2.175,6.848 -1.825,8.473
  rectangle: -1.375,6.873 -1.025,8.473
  rectangle: -0.575,6.873 -0.225,8.473
  rectangle: 0.225,6.873 0.575,8.473
  rectangle: 1.025,6.873 1.375,8.473
  rectangle: 1.825,6.873 2.175,8.473
  rectangle: 2.625,6.873 2.975,8.473
  rectangle: 3.425,6.873 3.775,8.473
  rectangle: 4.225,6.873 4.575,8.473
  rectangle: 5.825,6.873 6.175,8.473
  rectangle: 5.025,6.873 5.375,8.473

## MQFP80-1 [mm]
pads (80):
  rect 2.2x0.35 smd: 1(-8.125,6.175) 2(-8.125,5.525) 3(-8.125,4.875) 4(-8.125,4.225) 5(-8.125,3.575) 6(-8.125,2.925) 7(-8.125,2.275) 8(-8.125,1.625) 9(-8.125,0.975) 10(-8.125,0.325) 11(-8.125,-0.325) 12(-8.125,-0.975) 13(-8.125,-1.625) 14(-8.125,-2.275) 15(-8.125,-2.925) 16(-8.125,-3.575) 17(-8.125,-4.225) 18(-8.125,-4.875) 19(-8.125,-5.525) 20(-8.125,-6.175) 41(8.1,-6.175) 42(8.1,-5.525) 43(8.1,-4.875) 44(8.1,-4.225) 45(8.1,-3.575) 46(8.1,-2.925) 47(8.1,-2.275) 48(8.1,-1.625) 49(8.1,-0.975) 50(8.1,-0.325) 51(8.1,0.325) 52(8.1,0.975) 53(8.1,1.625) 54(8.1,2.275) 55(8.1,2.925) 56(8.1,3.575) 57(8.1,4.225) 58(8.1,4.875) 59(8.1,5.525) 60(8.1,6.175)
  rect 0.35x2.2 smd: 21(-6.175,-8.1) 22(-5.525,-8.1) 23(-4.875,-8.1) 24(-4.225,-8.1) 25(-3.575,-8.1) 26(-2.925,-8.1) 27(-2.275,-8.1) 28(-1.625,-8.1) 29(-0.975,-8.1) 30(-0.325,-8.1) 31(0.325,-8.1) 32(0.975,-8.1) 33(1.625,-8.1) 34(2.275,-8.1) 35(2.925,-8.1) 36(3.575,-8.1) 37(4.225,-8.1) 38(4.875,-8.1) 39(5.525,-8.1) 40(6.175,-8.1) 61(6.175,8.1) 62(5.525,8.1) 63(4.875,8.1) 64(4.225,8.1) 65(3.575,8.1) 66(2.925,8.1) 67(2.275,8.1) 68(1.625,8.1) 69(0.975,8.1) 70(0.325,8.1) 71(-0.325,8.1) 72(-0.975,8.1) 73(-1.625,8.1) 74(-2.275,8.1) 75(-2.925,8.1) 76(-3.575,8.1) 77(-4.225,8.1) 78(-4.875,8.1) 79(-5.525,8.1) 80(-6.175,8.1)
Top Overlay:
  circle w0.152: c-5,5 r1.118
  lines w0.152: -6.873,-6.373 -6.873,6.373 -6.373,6.873 6.373,6.873 6.873,6.373 6.873,-6.373 6.373,-6.873 -6.373,-6.873 -6.873,-6.373
Mechanical 16:
  rectangle: 6,6.873 6.35,8.473
  rectangle: 5.35,6.873 5.7,8.473
  rectangle: 4.7,6.873 5.05,8.473
  rectangle: 4.05,6.873 4.4,8.473
  rectangle: 3.4,6.873 3.75,8.473
  rectangle: 2.75,6.873 3.1,8.473
  rectangle: 2.1,6.873 2.45,8.473
  rectangle: 1.45,6.873 1.8,8.473
  rectangle: 0.8,6.873 1.15,8.473
  rectangle: 0.15,6.873 0.5,8.473
  rectangle: -0.5,6.873 -0.15,8.473
  rectangle: -1.15,6.873 -0.8,8.473
  rectangle: -1.8,6.873 -1.45,8.473
  rectangle: -2.45,6.873 -2.1,8.473
  rectangle: -3.1,6.873 -2.75,8.473
  rectangle: -3.75,6.873 -3.4,8.473
  rectangle: -4.4,6.873 -4.05,8.473
  rectangle: -5.05,6.873 -4.7,8.473
  rectangle: -5.7,6.873 -5.35,8.473
  rectangle: -6.35,6.873 -6,8.473
  rectangle: -8.473,6 -6.898,6.35
  rectangle: -8.473,5.35 -6.898,5.7
  rectangle: -8.473,4.05 -6.898,4.4
  rectangle: -8.473,4.7 -6.898,5.05
  rectangle: -8.473,3.4 -6.898,3.75
  rectangle: -8.473,2.75 -6.898,3.1
  rectangle: -8.473,2.1 -6.898,2.45
  rectangle: -8.473,1.45 -6.898,1.8
  rectangle: -8.473,0.8 -6.898,1.15
  rectangle: -8.473,0.15 -6.898,0.5
  rectangle: -8.473,-0.5 -6.898,-0.15
  rectangle: -8.473,-1.15 -6.898,-0.8
  rectangle: -8.473,-1.8 -6.898,-1.45
  rectangle: -8.473,-2.45 -6.898,-2.1
  rectangle: -8.473,-3.1 -6.898,-2.75
  rectangle: -8.473,-3.75 -6.898,-3.4
  rectangle: -8.473,-4.4 -6.898,-4.05
  rectangle: -8.473,-5.05 -6.898,-4.7
  rectangle: -8.473,-5.7 -6.898,-5.35
  rectangle: -8.473,-6.35 -6.898,-6
  rectangle: -6.35,-8.473 -6,-6.898
  rectangle: -5.7,-8.473 -5.35,-6.873
  rectangle: -5.05,-8.473 -4.7,-6.873
  rectangle: -4.4,-8.473 -4.05,-6.873
  rectangle: -3.75,-8.473 -3.4,-6.873
  rectangle: -3.1,-8.473 -2.75,-6.873
  rectangle: -2.45,-8.473 -2.1,-6.873
  rectangle: -1.8,-8.473 -1.45,-6.873
  rectangle: -1.15,-8.473 -0.8,-6.873
  rectangle: -0.5,-8.473 -0.15,-6.873
  rectangle: 0.15,-8.473 0.5,-6.873
  rectangle: 0.8,-8.473 1.15,-6.873
  rectangle: 1.45,-8.473 1.8,-6.873
  rectangle: 2.1,-8.473 2.45,-6.873
  rectangle: 2.75,-8.473 3.1,-6.873
  rectangle: 3.4,-8.473 3.75,-6.873
  rectangle: 4.05,-8.473 4.4,-6.873
  rectangle: 4.7,-8.473 5.05,-6.873
  rectangle: 5.35,-8.473 5.7,-6.873
  rectangle: 6,-8.473 6.35,-6.873
  rectangle: 6.873,6 8.473,6.35
  rectangle: 6.873,5.35 8.473,5.7
  rectangle: 6.873,4.7 8.473,5.05
  rectangle: 6.873,4.05 8.473,4.4
  rectangle: 6.873,3.4 8.473,3.75
  rectangle: 6.873,2.75 8.473,3.1
  rectangle: 6.873,2.1 8.473,2.45
  rectangle: 6.873,1.45 8.473,1.8
  rectangle: 6.873,0.8 8.473,1.15
  rectangle: 6.873,0.15 8.473,0.5
  rectangle: 6.873,-0.5 8.473,-0.15
  rectangle: 6.873,-1.15 8.473,-0.8
  rectangle: 6.873,-1.8 8.473,-1.45
  rectangle: 6.873,-2.45 8.473,-2.1
  rectangle: 6.873,-3.1 8.473,-2.75
  rectangle: 6.873,-3.75 8.473,-3.4
  rectangle: 6.873,-4.4 8.473,-4.05
  rectangle: 6.873,-5.05 8.473,-4.7
  rectangle: 6.873,-5.7 8.473,-5.35
  rectangle: 6.873,-6.35 8.473,-6

## MQFP80-2 [mm]
pads (80):
  rect 0.4x2.2 smd: 1(-9.2,-8.1) 2(-8.4,-8.1) 3(-7.6,-8.1) 4(-6.8,-8.1) 5(-6,-8.1) 6(-5.2,-8.1) 7(-4.4,-8.1) 8(-3.6,-8.1) 9(-2.8,-8.1) 10(-2,-8.1) 11(-1.2,-8.1) 12(-0.4,-8.1) 13(0.4,-8.1) 14(1.2,-8.1) 15(2,-8.1) 16(2.8,-8.1) 17(3.6,-8.1) 18(4.4,-8.1) 19(5.2,-8.1) 20(6,-8.1) 21(6.8,-8.1) 22(7.6,-8.1) 23(8.4,-8.1) 24(9.2,-8.1) 41(9.2,8.1) 42(8.4,8.1) 43(7.6,8.1) 44(6.8,8.1) 45(6,8.1) 46(5.2,8.1) 47(4.4,8.1) 48(3.6,8.1) 49(2.8,8.1) 50(2,8.1) 51(1.2,8.1) 52(0.4,8.1) 53(-0.4,8.1) 54(-1.2,8.1) 55(-2,8.1) 56(-2.8,8.1) 57(-3.6,8.1) 58(-4.4,8.1) 59(-5.2,8.1) 60(-6,8.1) 61(-6.8,8.1) 62(-7.6,8.1) 63(-8.4,8.1) 64(-9.2,8.1)
  rect 2.2x0.4 smd: 25(11.1,-6) 26(11.1,-5.2) 27(11.1,-4.4) 28(11.1,-3.6) 29(11.1,-2.8) 30(11.1,-2) 31(11.1,-1.2) 32(11.1,-0.4) 33(11.1,0.4) 34(11.1,1.2) 35(11.1,2) 36(11.1,2.8) 37(11.1,3.6) 38(11.1,4.4) 39(11.1,5.2) 40(11.1,6) 65(-11.1,6) 66(-11.1,5.2) 67(-11.1,4.4) 68(-11.1,3.6) 69(-11.1,2.8) 70(-11.1,2) 71(-11.1,1.2) 72(-11.1,0.4) 73(-11.1,-0.4) 74(-11.1,-1.2) 75(-11.1,-2) 76(-11.1,-2.8) 77(-11.1,-3.6) 78(-11.1,-4.4) 79(-11.1,-5.2) 80(-11.1,-6)
Top Overlay:
  circle w0.152: c-8,-5 r1
  lines w0.152: -9.873,-6.273 -9.873,6.273 -9.273,6.873 9.273,6.873 9.873,6.273 9.873,-6.273 9.273,-6.873 -9.273,-6.873 -9.873,-6.273
Mechanical 16:
  rectangle: -9.4,6.873 -9,8.473
  rectangle: -8.6,6.873 -8.2,8.473
  rectangle: -7.8,6.873 -7.4,8.473
  rectangle: -7,6.873 -6.6,8.473
  rectangle: -6.2,6.873 -5.8,8.473
  rectangle: -5.4,6.873 -5,8.473
  rectangle: -4.6,6.873 -4.2,8.473
  rectangle: -3.8,6.873 -3.4,8.473
  rectangle: -3,6.873 -2.6,8.473
  rectangle: -2.2,6.873 -1.8,8.473
  rectangle: -1.4,6.873 -1,8.473
  rectangle: -0.6,6.873 -0.2,8.473
  rectangle: 0.2,6.873 0.6,8.473
  rectangle: 1,6.873 1.4,8.473
  rectangle: 1.8,6.873 2.2,8.473
  rectangle: 2.6,6.873 3,8.473
  rectangle: 3.4,6.873 3.8,8.473
  rectangle: 4.2,6.873 4.6,8.473
  rectangle: 5,6.873 5.4,8.473
  rectangle: 5.8,6.873 6.2,8.473
  rectangle: 6.6,6.873 7,8.473
  rectangle: 7.4,6.873 7.8,8.473
  rectangle: 8.2,6.873 8.6,8.473
  rectangle: 9,6.873 9.4,8.473
  rectangle: -9.4,-8.473 -9,-6.873
  rectangle: -8.6,-8.473 -8.2,-6.873
  rectangle: -7.8,-8.473 -7.4,-6.873
  rectangle: -7,-8.473 -6.6,-6.873
  rectangle: -6.2,-8.473 -5.8,-6.873
  rectangle: -5.4,-8.473 -5,-6.873
  rectangle: -4.6,-8.473 -4.2,-6.873
  rectangle: -3.8,-8.473 -3.4,-6.873
  rectangle: -3,-8.473 -2.6,-6.873
  rectangle: -2.2,-8.473 -1.8,-6.873
  rectangle: -1.4,-8.473 -1,-6.873
  rectangle: -0.6,-8.473 -0.2,-6.873
  rectangle: 0.2,-8.473 0.6,-6.873
  rectangle: 1,-8.473 1.4,-6.873
  rectangle: 1.8,-8.473 2.2,-6.873
  rectangle: 2.6,-8.473 3,-6.873
  rectangle: 3.4,-8.473 3.8,-6.873
  rectangle: 4.2,-8.473 4.6,-6.873
  rectangle: 5,-8.473 5.4,-6.873
  rectangle: 5.8,-8.473 6.2,-6.873
  rectangle: 6.6,-8.473 7,-6.873
  rectangle: 7.4,-8.473 7.8,-6.873
  rectangle: 8.2,-8.473 8.6,-6.873
  rectangle: 9,-8.473 9.4,-6.873
  rectangle: -11.473,5.8 -9.873,6.2
  rectangle: -11.473,5 -9.873,5.4
  rectangle: -11.473,4.2 -9.873,4.6
  rectangle: -11.473,3.4 -9.873,3.8
  rectangle: -11.473,2.6 -9.873,3
  rectangle: -11.473,1.8 -9.873,2.2
  rectangle: -11.473,1 -9.873,1.4
  rectangle: -11.473,0.2 -9.873,0.6
  rectangle: -11.473,-0.6 -9.873,-0.2
  rectangle: -11.473,-1.4 -9.873,-1
  rectangle: -11.473,-2.2 -9.873,-1.8
  rectangle: -11.473,-3 -9.848,-2.6
  rectangle: -11.473,-3.8 -9.898,-3.4
  rectangle: -11.473,-4.6 -9.873,-4.2
  rectangle: -11.473,-5.4 -9.873,-5
  rectangle: 9.873,5.8 11.473,6.2
  rectangle: 9.873,5 11.473,5.4
  rectangle: 9.873,4.2 11.473,4.6
  rectangle: 9.873,3.4 11.473,3.8
  rectangle: 9.873,2.6 11.473,3
  rectangle: 9.873,1.8 11.473,2.2
  rectangle: 9.873,1 11.473,1.4
  rectangle: 9.848,0.2 11.473,0.6
  rectangle: 9.873,-0.6 11.473,-0.2
  rectangle: 9.873,-1.4 11.473,-1
  rectangle: 9.873,-2.2 11.473,-1.8
  rectangle: 9.873,-3 11.473,-2.6
  rectangle: 9.873,-3.8 11.473,-3.4
  rectangle: 9.873,-4.6 11.473,-4.2
  rectangle: 9.873,-5.4 11.473,-5
  rectangle: 9.873,-6.2 11.473,-5.8
  rectangle: -11.473,-6.2 -9.873,-5.8

## MQFP100 [mm]
pads (100):
  rect 0.35x2.2 smd: 1(-9.425,-8.1) 2(-8.775,-8.1) 3(-8.125,-8.1) 4(-7.475,-8.1) 5(-6.825,-8.1) 6(-6.175,-8.1) 7(-5.525,-8.1) 8(-4.875,-8.1) 9(-4.225,-8.1) 10(-3.575,-8.1) 11(-2.925,-8.1) 12(-2.275,-8.1) 13(-1.625,-8.1) 14(-0.975,-8.1) 15(-0.325,-8.1) 16(0.325,-8.1) 17(0.975,-8.1) 18(1.625,-8.1) 19(2.275,-8.1) 20(2.925,-8.1) 21(3.575,-8.1) 22(4.225,-8.1) 23(4.875,-8.1) 24(5.525,-8.1) 25(6.175,-8.1) 26(6.825,-8.1) 27(7.475,-8.1) 28(8.125,-8.1) 29(8.775,-8.1) 30(9.425,-8.1) 51(9.425,8.1) 52(8.775,8.1) 53(8.125,8.1) 54(7.475,8.1) 55(6.825,8.1) 56(6.175,8.1) 57(5.525,8.1) 58(4.875,8.1) 59(4.225,8.1) 60(3.575,8.1) 61(2.925,8.1) 62(2.275,8.1) 63(1.625,8.1) 64(0.975,8.1) 65(0.325,8.1) 66(-0.325,8.1) 67(-0.975,8.1) 68(-1.625,8.1) 69(-2.275,8.1) 70(-2.925,8.1) 71(-3.575,8.1) 72(-4.225,8.1) 73(-4.875,8.1) 74(-5.525,8.1) 75(-6.175,8.1) 76(-6.825,8.1) 77(-7.475,8.1) 78(-8.125,8.1) 79(-8.775,8.1) 80(-9.425,8.1)
  rect 2.2x0.35 smd: 31(11.1,-6.175) 32(11.1,-5.525) 33(11.1,-4.875) 34(11.1,-4.225) 35(11.1,-3.575) 36(11.1,-2.925) 37(11.1,-2.275) 38(11.1,-1.625) 39(11.1,-0.975) 40(11.1,-0.325) 41(11.1,0.325) 42(11.1,0.975) 43(11.1,1.625) 44(11.1,2.275) 45(11.1,2.925) 46(11.1,3.575) 47(11.1,4.225) 48(11.1,4.875) 49(11.1,5.525) 50(11.1,6.175) 81(-11.1,6.175) 82(-11.1,5.525) 83(-11.1,4.875) 84(-11.1,4.225) 85(-11.1,3.575) 86(-11.1,2.925) 87(-11.1,2.275) 88(-11.1,1.625) 89(-11.1,0.975) 90(-11.1,0.325) 91(-11.1,-0.325) 92(-11.1,-0.975) 93(-11.1,-1.625) 94(-11.1,-2.275) 95(-11.1,-2.925) 96(-11.1,-3.575) 97(-11.1,-4.225) 98(-11.1,-4.875) 99(-11.1,-5.525) 100(-11.1,-6.175)
Top Overlay:
  circle w0.152: c-8.9,-6 r0.608
  lines w0.152: -9.873,-6.473 -9.873,6.473 -9.473,6.873 9.473,6.873 9.873,6.473 9.873,-6.473 9.473,-6.873 -9.473,-6.873 -9.873,-6.473
Mechanical 16:
  rectangle: -9.6,-8.473 -9.25,-6.873
  rectangle: -8.95,-8.473 -8.6,-6.873
  rectangle: -8.3,-8.473 -7.95,-6.873
  rectangle: -7.65,-8.473 -7.3,-6.873
  rectangle: -7,-8.473 -6.65,-6.873
  rectangle: -6.35,-8.473 -6,-6.873
  rectangle: -5.7,-8.473 -5.35,-6.873
  rectangle: -5.05,-8.473 -4.7,-6.873
  rectangle: -4.4,-8.473 -4.05,-6.873
  rectangle: -3.75,-8.473 -3.4,-6.873
  rectangle: -3.1,-8.473 -2.75,-6.873
  rectangle: -2.45,-8.473 -2.1,-6.873
  rectangle: -1.8,-8.473 -1.45,-6.873
  rectangle: -1.15,-8.473 -0.8,-6.873
  rectangle: -0.5,-8.473 -0.15,-6.873
  rectangle: 0.15,-8.473 0.5,-6.873
  rectangle: 0.8,-8.473 1.15,-6.873
  rectangle: 1.45,-8.473 1.8,-6.873
  rectangle: 2.1,-8.473 2.45,-6.873
  rectangle: 2.75,-8.473 3.1,-6.873
  rectangle: 3.4,-8.473 3.75,-6.873
  rectangle: 4.05,-8.473 4.4,-6.873
  rectangle: 4.7,-8.473 5.05,-6.873
  rectangle: 5.35,-8.473 5.7,-6.873
  rectangle: 6,-8.473 6.35,-6.873
  rectangle: 6.65,-8.473 7,-6.873
  rectangle: 7.3,-8.473 7.65,-6.873
  rectangle: 7.95,-8.473 8.3,-6.873
  rectangle: 8.6,-8.473 8.95,-6.873
  rectangle: 9.25,-8.473 9.6,-6.873
  rectangle: -9.6,6.873 -9.25,8.473
  rectangle: -8.95,6.873 -8.6,8.473
  rectangle: -8.3,6.873 -7.95,8.473
  rectangle: -7.65,6.873 -7.3,8.473
  rectangle: -7,6.873 -6.65,8.473
  rectangle: -6.35,6.873 -6,8.473
  rectangle: -5.7,6.873 -5.35,8.473
  rectangle: -5.05,6.873 -4.7,8.473
  rectangle: -4.4,6.873 -4.05,8.473
  rectangle: -3.75,6.873 -3.4,8.473
  rectangle: -3.1,6.873 -2.75,8.473
  rectangle: -2.45,6.873 -2.1,8.473
  rectangle: -1.8,6.873 -1.45,8.473
  rectangle: -1.15,6.873 -0.8,8.473
  rectangle: -0.5,6.873 -0.15,8.473
  rectangle: 0.15,6.873 0.5,8.473
  rectangle: 0.8,6.873 1.15,8.473
  rectangle: 1.45,6.873 1.8,8.473
  rectangle: 2.1,6.873 2.45,8.473
  rectangle: 2.75,6.873 3.1,8.473
  rectangle: 3.4,6.873 3.75,8.473
  rectangle: 4.05,6.873 4.4,8.473
  rectangle: 4.7,6.873 5.05,8.473
  rectangle: 5.35,6.873 5.7,8.473
  rectangle: 6,6.873 6.35,8.473
  rectangle: 6.65,6.873 7,8.473
  rectangle: 7.275,6.873 7.65,8.473
  rectangle: 7.95,6.873 8.3,8.473
  rectangle: 8.6,6.873 8.95,8.473
  rectangle: 9.25,6.873 9.6,8.473
  rectangle: 9.873,6 11.473,6.35
  rectangle: 9.873,5.35 11.473,5.7
  rectangle: 9.873,4.7 11.473,5.05
  rectangle: 9.873,4.05 11.473,4.4
  rectangle: 9.873,3.4 11.473,3.75
  rectangle: 9.873,2.75 11.473,3.1
  rectangle: 9.873,2.1 11.473,2.45
  rectangle: 9.873,1.45 11.473,1.8
  rectangle: 9.873,0.8 11.473,1.15
  rectangle: 9.873,0.15 11.473,0.5
  rectangle: 9.873,-0.5 11.473,-0.15
  rectangle: 9.873,-1.15 11.473,-0.8
  rectangle: 9.873,-1.8 11.473,-1.45
  rectangle: 9.873,-2.45 11.473,-2.1
  rectangle: 9.873,-3.1 11.473,-2.75
  rectangle: 9.873,-3.75 11.473,-3.4
  rectangle: 9.873,-4.4 11.473,-4.05
  rectangle: 9.873,-5.05 11.473,-4.7
  rectangle: 9.873,-5.7 11.473,-5.35
  rectangle: 9.873,-6.35 11.473,-6
  rectangle: -11.473,6 -9.873,6.35
  rectangle: -11.473,5.35 -9.873,5.7
  rectangle: -11.473,4.7 -9.873,5.05
  rectangle: -11.473,4.05 -9.873,4.4
  rectangle: -11.473,3.4 -9.873,3.75
  rectangle: -11.473,2.75 -9.873,3.1
  rectangle: -11.473,2.1 -9.873,2.45
  rectangle: -11.473,1.45 -9.873,1.8
  rectangle: -11.473,0.8 -9.873,1.15
  rectangle: -11.473,0.15 -9.873,0.5
  rectangle: -11.473,-0.5 -9.848,-0.15
  rectangle: -11.473,-1.15 -9.873,-0.8
  rectangle: -11.473,-1.8 -9.873,-1.45
  rectangle: -11.473,-2.45 -9.873,-2.1
  rectangle: -11.473,-3.1 -9.873,-2.75
  rectangle: -11.473,-3.75 -9.873,-3.4
  rectangle: -11.473,-4.4 -9.873,-4.05
  rectangle: -11.473,-5.05 -9.873,-4.7
  rectangle: -11.473,-5.7 -9.873,-5.35
  rectangle: -11.473,-6.35 -9.873,-6